# Altium integrated library Linear Technology Operational Amplifiers (LT1000).IntLib: 2280 symbols (part 33 of 79)
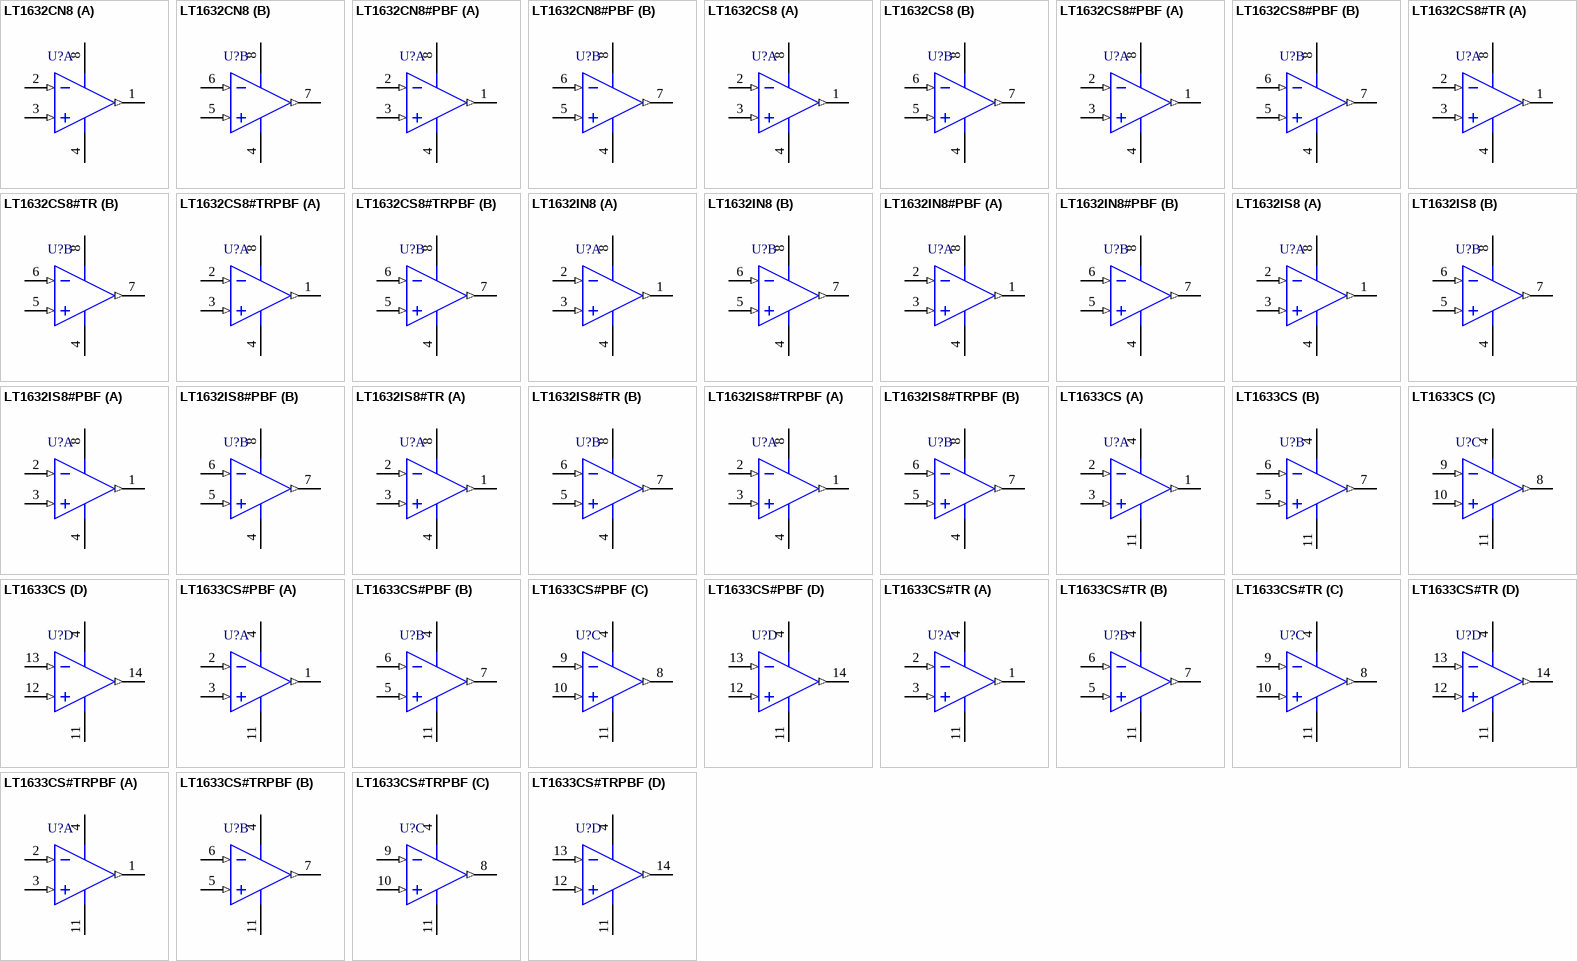
[diagram p137: symbols LT1632CN8 to LT1633CS#TRPBF]

## LT1633CS#TR
designator U?
Quad Channel, Low Distortion, High Speed, Precision Operational Amplifier, RRIO, 45 MHz Typical GBW, 27 V/us Typical SR, 2.6 to 36 V, 14-Pin SOIC (S-14), Commercial, Reel; Linear Technology Part Number: LT1633; Manufacturer: Linear Technology; PartNumber: LT1633CS#TR; Channels (#): 4; GBW (MHz) Typical: 45; Is (mA) Typical: 4.3; SR (V/us) Typical: 27; Vos (mV) Guaranteed: 1.35; Vos (mV) Typical: 0.4; Vs Max (V): 36; Vs Min (V): 2.6; PackageVersion: Rev G; PackageReference: LT-S-14; PackageDescription: 14-Lead Plastic Small Outline, Body 8.65 x 3.90 mm, Pitch 1.27 mm; Supplier 1: Digi-Key; Supplier Part Number 1: LT1633CS#TR-ND; Packing: Reel; Type: VFB; Mounting Technology: Surface Mount; ComponentLink1Description: Manufacturer URL; ComponentLink1URL: http://www.linear.com/; ComponentLink2Description: Datasheet; ComponentLink2URL: http://cds.linear.com/docs/en/datasheet/16323fs.pdf; ComponentLink3Description: Package Specification; ComponentLink3URL: http://cds.linear.com/docs/en/packaging/05081610_G_S14.pdf
footprint LT-S-14_N (SOIC, 14-Leads, Body 8.65x3.90mm, Pitch 1.27mm, IPC Medium Density)
footprint LT-S-14_L (SOIC, 14-Leads, Body 8.65x3.90mm, Pitch 1.27mm, IPC High Density)
footprint LT-S-14_M (SOIC, 14-Leads, Body 8.65x3.90mm, Pitch 1.27mm, IPC Low Density)
pins on every part: 4 V+ (power), 11 V- (power)
part A pins: 1 OUT A (out), 2 -IN A (in), 3 +IN A (in)
part B pins: 5 +IN B (in), 6 -IN B (in), 7 OUT B (out)
part C pins: 8 OUT C (out), 9 -IN C (in), 10 +IN C (in)
part D pins: 12 +IN D (in), 13 -IN D (in), 14 OUT D (out)

## LT1633CS#TRPBF
designator U?
Quad Channel, Low Distortion, High Speed, Precision Operational Amplifier, RRIO, 45 MHz Typical GBW, 27 V/us Typical SR, 2.6 to 36 V, 14-Pin SOIC (S-14), Commercial, Pb-Free, Reel; Linear Technology Part Number: LT1633; Manufacturer: Linear Technology; PartNumber: LT1633CS#TRPBF; Channels (#): 4; GBW (MHz) Typical: 45; Is (mA) Typical: 4.3; SR (V/us) Typical: 27; Vos (mV) Guaranteed: 1.35; Vos (mV) Typical: 0.4; Vs Max (V): 36; Vs Min (V): 2.6; PackageVersion: Rev G; PackageReference: LT-S-14; PackageDescription: 14-Lead Plastic Small Outline, Body 8.65 x 3.90 mm, Pitch 1.27 mm; Supplier 1: Digi-Key; Supplier Part Number 1: LT1633CS#TRPBF-ND; Packing: Reel; RoHS: Pb-Free; Type: VFB; Mounting Technology: Surface Mount; ComponentLink1Description: Manufacturer URL; ComponentLink1URL: http://www.linear.com/; ComponentLink2Description: Datasheet; ComponentLink2URL: http://cds.linear.com/docs/en/datasheet/16323fs.pdf; ComponentLink3Description: Package Specification; ComponentLink3URL: http://cds.linear.com/docs/en/packaging/05081610_G_S14.pdf
footprint LT-S-14_N (SOIC, 14-Leads, Body 8.65x3.90mm, Pitch 1.27mm, IPC Medium Density)
footprint LT-S-14_L (SOIC, 14-Leads, Body 8.65x3.90mm, Pitch 1.27mm, IPC High Density)
footprint LT-S-14_M (SOIC, 14-Leads, Body 8.65x3.90mm, Pitch 1.27mm, IPC Low Density)
pins on every part: 4 V+ (power), 11 V- (power)
part A pins: 1 OUT A (out), 2 -IN A (in), 3 +IN A (in)
part B pins: 5 +IN B (in), 6 -IN B (in), 7 OUT B (out)
part C pins: 8 OUT C (out), 9 -IN C (in), 10 +IN C (in)
part D pins: 12 +IN D (in), 13 -IN D (in), 14 OUT D (out)

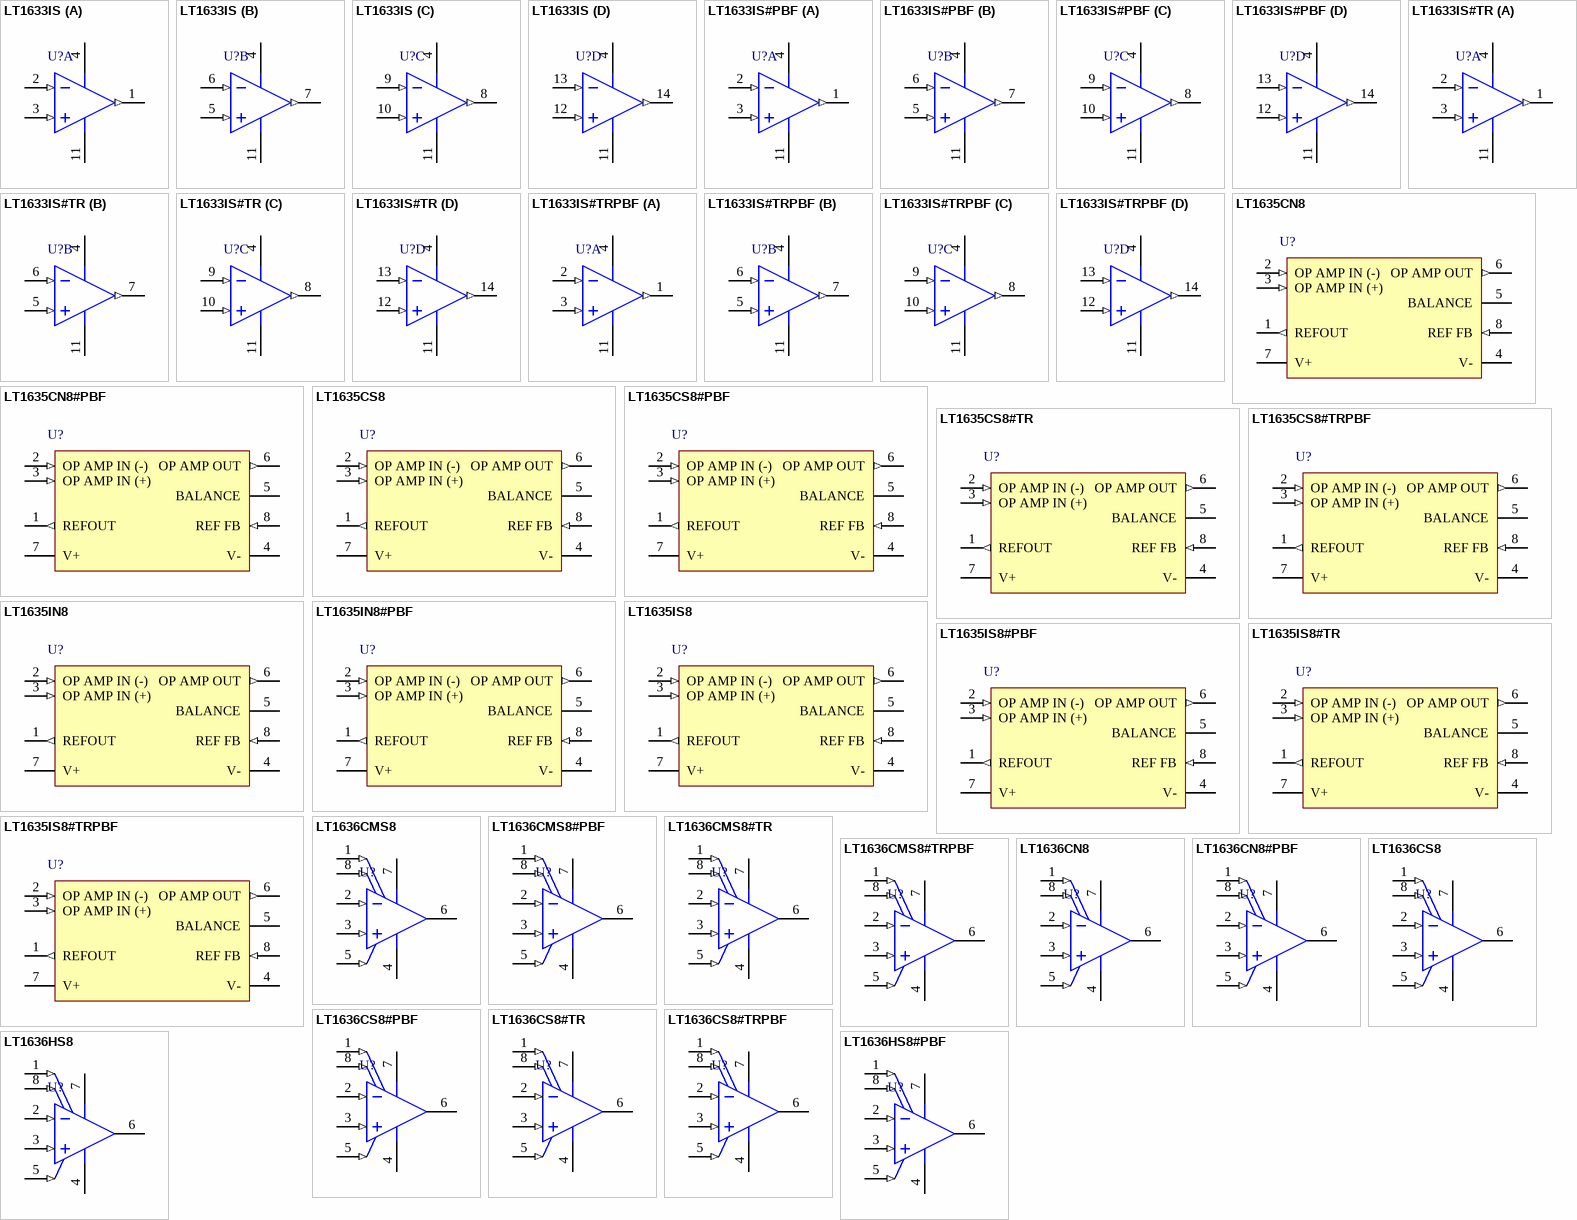
[diagram p57: symbols LT1633IS to LT1636HS8#PBF]

## LT1633IS
designator U?
Quad Channel, Low Distortion, High Speed, Precision Operational Amplifier, RRIO, 45 MHz Typical GBW, 27 V/us Typical SR, 2.6 to 36 V, 14-Pin SOIC (S-14), Industrial; Linear Technology Part Number: LT1633; Manufacturer: Linear Technology; PartNumber: LT1633IS; Channels (#): 4; GBW (MHz) Typical: 45; Is (mA) Typical: 4.3; SR (V/us) Typical: 27; Vos (mV) Guaranteed: 1.35; Vos (mV) Typical: 0.4; Vs Max (V): 36; Vs Min (V): 2.6; PackageVersion: Rev G; PackageReference: LT-S-14; PackageDescription: 14-Lead Plastic Small Outline, Body 8.65 x 3.90 mm, Pitch 1.27 mm; Supplier 1: Digi-Key; Supplier Part Number 1: LT1633IS-ND; Type: VFB; Mounting Technology: Surface Mount; ComponentLink1Description: Manufacturer URL; ComponentLink1URL: http://www.linear.com/; ComponentLink2Description: Datasheet; ComponentLink2URL: http://cds.linear.com/docs/en/datasheet/16323fs.pdf; ComponentLink3Description: Package Specification; ComponentLink3URL: http://cds.linear.com/docs/en/packaging/05081610_G_S14.pdf
footprint LT-S-14_N (SOIC, 14-Leads, Body 8.65x3.90mm, Pitch 1.27mm, IPC Medium Density)
footprint LT-S-14_L (SOIC, 14-Leads, Body 8.65x3.90mm, Pitch 1.27mm, IPC High Density)
footprint LT-S-14_M (SOIC, 14-Leads, Body 8.65x3.90mm, Pitch 1.27mm, IPC Low Density)
pins on every part: 4 V+ (power), 11 V- (power)
part A pins: 1 OUT A (out), 2 -IN A (in), 3 +IN A (in)
part B pins: 5 +IN B (in), 6 -IN B (in), 7 OUT B (out)
part C pins: 8 OUT C (out), 9 -IN C (in), 10 +IN C (in)
part D pins: 12 +IN D (in), 13 -IN D (in), 14 OUT D (out)

## LT1633IS#PBF
designator U?
Quad Channel, Low Distortion, High Speed, Precision Operational Amplifier, RRIO, 45 MHz Typical GBW, 27 V/us Typical SR, 2.6 to 36 V, 14-Pin SOIC (S-14), Industrial, Pb-Free; Linear Technology Part Number: LT1633; Manufacturer: Linear Technology; PartNumber: LT1633IS#PBF; Channels (#): 4; GBW (MHz) Typical: 45; Is (mA) Typical: 4.3; SR (V/us) Typical: 27; Vos (mV) Guaranteed: 1.35; Vos (mV) Typical: 0.4; Vs Max (V): 36; Vs Min (V): 2.6; PackageVersion: Rev G; PackageReference: LT-S-14; PackageDescription: 14-Lead Plastic Small Outline, Body 8.65 x 3.90 mm, Pitch 1.27 mm; Supplier 1: Digi-Key; Supplier Part Number 1: LT1633IS#PBF-ND; RoHS: Pb-Free; Type: VFB; Mounting Technology: Surface Mount; ComponentLink1Description: Manufacturer URL; ComponentLink1URL: http://www.linear.com/; ComponentLink2Description: Datasheet; ComponentLink2URL: http://cds.linear.com/docs/en/datasheet/16323fs.pdf; ComponentLink3Description: Package Specification; ComponentLink3URL: http://cds.linear.com/docs/en/packaging/05081610_G_S14.pdf
footprint LT-S-14_N (SOIC, 14-Leads, Body 8.65x3.90mm, Pitch 1.27mm, IPC Medium Density)
footprint LT-S-14_L (SOIC, 14-Leads, Body 8.65x3.90mm, Pitch 1.27mm, IPC High Density)
footprint LT-S-14_M (SOIC, 14-Leads, Body 8.65x3.90mm, Pitch 1.27mm, IPC Low Density)
pins on every part: 4 V+ (power), 11 V- (power)
part A pins: 1 OUT A (out), 2 -IN A (in), 3 +IN A (in)
part B pins: 5 +IN B (in), 6 -IN B (in), 7 OUT B (out)
part C pins: 8 OUT C (out), 9 -IN C (in), 10 +IN C (in)
part D pins: 12 +IN D (in), 13 -IN D (in), 14 OUT D (out)

## LT1633IS#TR
designator U?
Quad Channel, Low Distortion, High Speed, Precision Operational Amplifier, RRIO, 45 MHz Typical GBW, 27 V/us Typical SR, 2.6 to 36 V, 14-Pin SOIC (S-14), Industrial, Reel; Linear Technology Part Number: LT1633; Manufacturer: Linear Technology; PartNumber: LT1633IS#TR; Channels (#): 4; GBW (MHz) Typical: 45; Is (mA) Typical: 4.3; SR (V/us) Typical: 27; Vos (mV) Guaranteed: 1.35; Vos (mV) Typical: 0.4; Vs Max (V): 36; Vs Min (V): 2.6; PackageVersion: Rev G; PackageReference: LT-S-14; PackageDescription: 14-Lead Plastic Small Outline, Body 8.65 x 3.90 mm, Pitch 1.27 mm; Supplier 1: Digi-Key; Supplier Part Number 1: LT1633IS#TR-ND; Packing: Reel; Type: VFB; Mounting Technology: Surface Mount; ComponentLink1Description: Manufacturer URL; ComponentLink1URL: http://www.linear.com/; ComponentLink2Description: Datasheet; ComponentLink2URL: http://cds.linear.com/docs/en/datasheet/16323fs.pdf; ComponentLink3Description: Package Specification; ComponentLink3URL: http://cds.linear.com/docs/en/packaging/05081610_G_S14.pdf
footprint LT-S-14_N (SOIC, 14-Leads, Body 8.65x3.90mm, Pitch 1.27mm, IPC Medium Density)
footprint LT-S-14_L (SOIC, 14-Leads, Body 8.65x3.90mm, Pitch 1.27mm, IPC High Density)
footprint LT-S-14_M (SOIC, 14-Leads, Body 8.65x3.90mm, Pitch 1.27mm, IPC Low Density)
pins on every part: 4 V+ (power), 11 V- (power)
part A pins: 1 OUT A (out), 2 -IN A (in), 3 +IN A (in)
part B pins: 5 +IN B (in), 6 -IN B (in), 7 OUT B (out)
part C pins: 8 OUT C (out), 9 -IN C (in), 10 +IN C (in)
part D pins: 12 +IN D (in), 13 -IN D (in), 14 OUT D (out)

## LT1633IS#TRPBF
designator U?
Quad Channel, Low Distortion, High Speed, Precision Operational Amplifier, RRIO, 45 MHz Typical GBW, 27 V/us Typical SR, 2.6 to 36 V, 14-Pin SOIC (S-14), Industrial, Pb-Free, Reel; Linear Technology Part Number: LT1633; Manufacturer: Linear Technology; PartNumber: LT1633IS#TRPBF; Channels (#): 4; GBW (MHz) Typical: 45; Is (mA) Typical: 4.3; SR (V/us) Typical: 27; Vos (mV) Guaranteed: 1.35; Vos (mV) Typical: 0.4; Vs Max (V): 36; Vs Min (V): 2.6; PackageVersion: Rev G; PackageReference: LT-S-14; PackageDescription: 14-Lead Plastic Small Outline, Body 8.65 x 3.90 mm, Pitch 1.27 mm; Supplier 1: Digi-Key; Supplier Part Number 1: LT1633IS#TRPBF-ND; Packing: Reel; RoHS: Pb-Free; Type: VFB; Mounting Technology: Surface Mount; ComponentLink1Description: Manufacturer URL; ComponentLink1URL: http://www.linear.com/; ComponentLink2Description: Datasheet; ComponentLink2URL: http://cds.linear.com/docs/en/datasheet/16323fs.pdf; ComponentLink3Description: Package Specification; ComponentLink3URL: http://cds.linear.com/docs/en/packaging/05081610_G_S14.pdf
footprint LT-S-14_N (SOIC, 14-Leads, Body 8.65x3.90mm, Pitch 1.27mm, IPC Medium Density)
footprint LT-S-14_L (SOIC, 14-Leads, Body 8.65x3.90mm, Pitch 1.27mm, IPC High Density)
footprint LT-S-14_M (SOIC, 14-Leads, Body 8.65x3.90mm, Pitch 1.27mm, IPC Low Density)
pins on every part: 4 V+ (power), 11 V- (power)
part A pins: 1 OUT A (out), 2 -IN A (in), 3 +IN A (in)
part B pins: 5 +IN B (in), 6 -IN B (in), 7 OUT B (out)
part C pins: 8 OUT C (out), 9 -IN C (in), 10 +IN C (in)
part D pins: 12 +IN D (in), 13 -IN D (in), 14 OUT D (out)

## LT1635CN8
designator U?
Single Channel, Operational Amplifier and Reference with LM10 Pinout, 0.175 MHz Typical GBW, 0.045 V/us Typical SR, 1.1 to 14 V, 8-Pin DIP (N8-8), Commercial; Linear Technology Part Number: LT1635; Manufacturer: Linear Technology; PartNumber: LT1635CN8; Channels (#): 1; GBW (MHz) Typical: 0.175; Is (mA) Typical: 0.13; SR (V/us) Typical: 0.045; Vos (mV) Guaranteed: 1.3; Vs Max (V): 14; Vs Min (V): 1.1; DatasheetVersion: Rev. A; PackageVersion: Rev I; PackageReference: LT-N8-8; PackageDescription: 8-Lead PDIP, Body 10.16 x 6.48 mm, Pitch 2.54 mm; Supplier 1: Digi-Key; Supplier Part Number 1: LT1635CN8-ND; Type: VFB; Vos (mV) Typical: 0.13; Mounting Technology: Through Hole; ComponentLink1Description: Manufacturer URL; ComponentLink1URL: http://www.linear.com/; ComponentLink2Description: Datasheet; ComponentLink2URL: http://cds.linear.com/docs/en/datasheet/1635fa.pdf; ComponentLink3Description: Package Specification; ComponentLink3URL: http://cds.linear.com/docs/en/packaging/05081510_I_N8.pdf
footprint LT-N8-8 (DIP, 8-Leads, Body 10.16x6.48mm, Pitch 2.54mm)
pins: 1 REFOUT (out), 2 OP AMP IN (-) (in), 3 OP AMP IN (+) (in), 4 V- (power), 5 BALANCE, 6 OP AMP OUT (out), 7 V+ (power), 8 REF FB (in)

## LT1635CN8#PBF
designator U?
Single Channel, Operational Amplifier and Reference with LM10 Pinout, 0.175 MHz Typical GBW, 0.045 V/us Typical SR, 1.1 to 14 V, 8-Pin DIP (N8-8), Commercial, Pb-Free; Linear Technology Part Number: LT1635; Manufacturer: Linear Technology; PartNumber: LT1635CN8#PBF; Channels (#): 1; GBW (MHz) Typical: 0.175; Is (mA) Typical: 0.13; SR (V/us) Typical: 0.045; Vos (mV) Guaranteed: 1.3; Vs Max (V): 14; Vs Min (V): 1.1; DatasheetVersion: Rev. A; PackageVersion: Rev I; PackageReference: LT-N8-8; PackageDescription: 8-Lead PDIP, Body 10.16 x 6.48 mm, Pitch 2.54 mm; Supplier 1: Digi-Key; Supplier Part Number 1: LT1635CN8#PBF-ND; Supplier 2: Farnell; Supplier Part Number 2: 1663455; RoHS: Pb-Free; Type: VFB; Vos (mV) Typical: 0.13; Mounting Technology: Surface Mount; ComponentLink1Description: Manufacturer URL; ComponentLink1URL: http://www.linear.com/; ComponentLink2Description: Datasheet; ComponentLink2URL: http://cds.linear.com/docs/en/datasheet/1635fa.pdf; ComponentLink3Description: Package Specification; ComponentLink3URL: http://cds.linear.com/docs/en/packaging/05081510_I_N8.pdf
footprint LT-N8-8 (DIP, 8-Leads, Body 10.16x6.48mm, Pitch 2.54mm)
pins: 1 REFOUT (out), 2 OP AMP IN (-) (in), 3 OP AMP IN (+) (in), 4 V- (power), 5 BALANCE, 6 OP AMP OUT (out), 7 V+ (power), 8 REF FB (in)

## LT1635CS8
designator U?
Single Channel, Operational Amplifier and Reference with LM10 Pinout, 0.175 MHz Typical GBW, 0.045 V/us Typical SR, 1.1 to 14 V, 8-Pin SOIC (S8-8), Commercial; Linear Technology Part Number: LT1635; Manufacturer: Linear Technology; PartNumber: LT1635CS8; Channels (#): 1; GBW (MHz) Typical: 0.175; Is (mA) Typical: 0.13; SR (V/us) Typical: 0.045; Vos (mV) Guaranteed: 1.3; Vs Max (V): 14; Vs Min (V): 1.1; DatasheetVersion: Rev. A; PackageVersion: Rev G; PackageReference: LT-S8-8; PackageDescription: 8-Pin Plastic Small Outline, Body 4.9 x 3.9 mm, Pitch 1.27 mm; Supplier 1: Digi-Key; Supplier Part Number 1: LT1635CS8-ND; Type: VFB; Vos (mV) Typical: 0.13; Mounting Technology: Surface Mount; ComponentLink1Description: Manufacturer URL; ComponentLink1URL: http://www.linear.com/; ComponentLink2Description: Datasheet; ComponentLink2URL: http://cds.linear.com/docs/en/datasheet/1635fa.pdf; ComponentLink3Description: Package Specification; ComponentLink3URL: http://cds.linear.com/docs/en/packaging/05081610_G_SO8.pdf
footprint LT-S8-8_N (SOIC, 8-Leads, Body 4.9x3.9mm, Pitch 1.27mm, IPC Medium Density)
footprint LT-S8-8_L (SOIC, 8-Leads, Body 4.9x3.9mm, Pitch 1.27mm, IPC High Density)
footprint LT-S8-8_M (SOIC, 8-Leads, Body 4.9x3.9mm, Pitch 1.27mm, IPC Low Density)
pins: 1 REFOUT (out), 2 OP AMP IN (-) (in), 3 OP AMP IN (+) (in), 4 V- (power), 5 BALANCE, 6 OP AMP OUT (out), 7 V+ (power), 8 REF FB (in)

## LT1635CS8#PBF
designator U?
Single Channel, Operational Amplifier and Reference with LM10 Pinout, 0.175 MHz Typical GBW, 0.045 V/us Typical SR, 1.1 to 14 V, 8-Pin SOIC (S8-8), Commercial, Pb-Free; Linear Technology Part Number: LT1635; Manufacturer: Linear Technology; PartNumber: LT1635CS8#PBF; Channels (#): 1; GBW (MHz) Typical: 0.175; Is (mA) Typical: 0.13; SR (V/us) Typical: 0.045; Vos (mV) Guaranteed: 1.3; Vs Max (V): 14; Vs Min (V): 1.1; DatasheetVersion: Rev. A; PackageVersion: Rev G; PackageReference: LT-S8-8; PackageDescription: 8-Pin Plastic Small Outline, Body 4.9 x 3.9 mm, Pitch 1.27 mm; Supplier 1: Digi-Key; Supplier Part Number 1: LT1635CS8#PBF-ND; Supplier 2: Farnell; Supplier Part Number 2: 1330678; Supplier 3: Newark; Supplier Part Number 3: 57M5408; RoHS: Pb-Free; Type: VFB; Vos (mV) Typical: 0.13; Mounting Technology: Surface Mount; ComponentLink1Description: Manufacturer URL; ComponentLink1URL: http://www.linear.com/; ComponentLink2Description: Datasheet; ComponentLink2URL: http://cds.linear.com/docs/en/datasheet/1635fa.pdf; ComponentLink3Description: Package Specification; ComponentLink3URL: http://cds.linear.com/docs/en/packaging/05081610_G_SO8.pdf
footprint LT-S8-8_N (SOIC, 8-Leads, Body 4.9x3.9mm, Pitch 1.27mm, IPC Medium Density)
footprint LT-S8-8_L (SOIC, 8-Leads, Body 4.9x3.9mm, Pitch 1.27mm, IPC High Density)
footprint LT-S8-8_M (SOIC, 8-Leads, Body 4.9x3.9mm, Pitch 1.27mm, IPC Low Density)
pins: 1 REFOUT (out), 2 OP AMP IN (-) (in), 3 OP AMP IN (+) (in), 4 V- (power), 5 BALANCE, 6 OP AMP OUT (out), 7 V+ (power), 8 REF FB (in)

## LT1635CS8#TR
designator U?
Single Channel, Operational Amplifier and Reference with LM10 Pinout, 0.175 MHz Typical GBW, 0.045 V/us Typical SR, 1.1 to 14 V, 8-Pin SOIC (S8-8), Commercial, Reel; Linear Technology Part Number: LT1635; Manufacturer: Linear Technology; PartNumber: LT1635CS8#TR; Channels (#): 1; GBW (MHz) Typical: 0.175; Is (mA) Typical: 0.13; SR (V/us) Typical: 0.045; Vos (mV) Guaranteed: 1.3; Vs Max (V): 14; Vs Min (V): 1.1; DatasheetVersion: Rev. A; PackageVersion: Rev G; PackageReference: LT-S8-8; PackageDescription: 8-Pin Plastic Small Outline, Body 4.9 x 3.9 mm, Pitch 1.27 mm; Supplier 1: Digi-Key; Supplier Part Number 1: LT1635CS8#TR-ND; Packing: Reel; Type: VFB; Vos (mV) Typical: 0.13; Mounting Technology: Surface Mount; ComponentLink1Description: Manufacturer URL; ComponentLink1URL: http://www.linear.com/; ComponentLink2Description: Datasheet; ComponentLink2URL: http://cds.linear.com/docs/en/datasheet/1635fa.pdf; ComponentLink3Description: Package Specification; ComponentLink3URL: http://cds.linear.com/docs/en/packaging/05081610_G_SO8.pdf
footprint LT-S8-8_N (SOIC, 8-Leads, Body 4.9x3.9mm, Pitch 1.27mm, IPC Medium Density)
footprint LT-S8-8_L (SOIC, 8-Leads, Body 4.9x3.9mm, Pitch 1.27mm, IPC High Density)
footprint LT-S8-8_M (SOIC, 8-Leads, Body 4.9x3.9mm, Pitch 1.27mm, IPC Low Density)
pins: 1 REFOUT (out), 2 OP AMP IN (-) (in), 3 OP AMP IN (+) (in), 4 V- (power), 5 BALANCE, 6 OP AMP OUT (out), 7 V+ (power), 8 REF FB (in)

## LT1635CS8#TRPBF
designator U?
Single Channel, Operational Amplifier and Reference with LM10 Pinout, 0.175 MHz Typical GBW, 0.045 V/us Typical SR, 1.1 to 14 V, 8-Pin SOIC (S8-8), Commercial, Pb-Free, Reel; Linear Technology Part Number: LT1635; Manufacturer: Linear Technology; PartNumber: LT1635CS8#TRPBF; Channels (#): 1; GBW (MHz) Typical: 0.175; Is (mA) Typical: 0.13; SR (V/us) Typical: 0.045; Vos (mV) Guaranteed: 1.3; Vs Max (V): 14; Vs Min (V): 1.1; DatasheetVersion: Rev. A; PackageVersion: Rev G; PackageReference: LT-S8-8; PackageDescription: 8-Pin Plastic Small Outline, Body 4.9 x 3.9 mm, Pitch 1.27 mm; Supplier 1: Digi-Key; Supplier Part Number 1: LT1635CS8#TRPBF-ND; Packing: Reel; RoHS: Pb-Free; Type: VFB; Vos (mV) Typical: 0.13; Mounting Technology: Surface Mount; ComponentLink1Description: Manufacturer URL; ComponentLink1URL: http://www.linear.com/; ComponentLink2Description: Datasheet; ComponentLink2URL: http://cds.linear.com/docs/en/datasheet/1635fa.pdf; ComponentLink3Description: Package Specification; ComponentLink3URL: http://cds.linear.com/docs/en/packaging/05081610_G_SO8.pdf
footprint LT-S8-8_N (SOIC, 8-Leads, Body 4.9x3.9mm, Pitch 1.27mm, IPC Medium Density)
footprint LT-S8-8_L (SOIC, 8-Leads, Body 4.9x3.9mm, Pitch 1.27mm, IPC High Density)
footprint LT-S8-8_M (SOIC, 8-Leads, Body 4.9x3.9mm, Pitch 1.27mm, IPC Low Density)
pins: 1 REFOUT (out), 2 OP AMP IN (-) (in), 3 OP AMP IN (+) (in), 4 V- (power), 5 BALANCE, 6 OP AMP OUT (out), 7 V+ (power), 8 REF FB (in)

## LT1635IN8
designator U?
Single Channel, Operational Amplifier and Reference with LM10 Pinout, 0.175 MHz Typical GBW, 0.045 V/us Typical SR, 1.1 to 14 V, 8-Pin DIP (N8-8), Industrial; Linear Technology Part Number: LT1635; Manufacturer: Linear Technology; PartNumber: LT1635IN8; Channels (#): 1; GBW (MHz) Typical: 0.175; Is (mA) Typical: 0.13; SR (V/us) Typical: 0.045; Vos (mV) Guaranteed: 1.3; Vs Max (V): 14; Vs Min (V): 1.1; DatasheetVersion: Rev. A; PackageVersion: Rev I; PackageReference: LT-N8-8; PackageDescription: 8-Lead PDIP, Body 10.16 x 6.48 mm, Pitch 2.54 mm; Supplier 1: Digi-Key; Supplier Part Number 1: LT1635IN8-ND; Type: VFB; Vos (mV) Typical: 0.13; Mounting Technology: Through Hole; ComponentLink1Description: Manufacturer URL; ComponentLink1URL: http://www.linear.com/; ComponentLink2Description: Datasheet; ComponentLink2URL: http://cds.linear.com/docs/en/datasheet/1635fa.pdf; ComponentLink3Description: Package Specification; ComponentLink3URL: http://cds.linear.com/docs/en/packaging/05081510_I_N8.pdf
footprint LT-N8-8 (DIP, 8-Leads, Body 10.16x6.48mm, Pitch 2.54mm)
pins: 1 REFOUT (out), 2 OP AMP IN (-) (in), 3 OP AMP IN (+) (in), 4 V- (power), 5 BALANCE, 6 OP AMP OUT (out), 7 V+ (power), 8 REF FB (in)

## LT1635IN8#PBF
designator U?
Single Channel, Operational Amplifier and Reference with LM10 Pinout, 0.175 MHz Typical GBW, 0.045 V/us Typical SR, 1.1 to 14 V, 8-Pin DIP (N8-8), Industrial, Pb-Free; Linear Technology Part Number: LT1635; Manufacturer: Linear Technology; PartNumber: LT1635IN8#PBF; Channels (#): 1; GBW (MHz) Typical: 0.175; Is (mA) Typical: 0.13; SR (V/us) Typical: 0.045; Vos (mV) Guaranteed: 1.3; Vs Max (V): 14; Vs Min (V): 1.1; DatasheetVersion: Rev. A; PackageVersion: Rev I; PackageReference: LT-N8-8; PackageDescription: 8-Lead PDIP, Body 10.16 x 6.48 mm, Pitch 2.54 mm; Supplier 1: Digi-Key; Supplier Part Number 1: LT1635IN8#PBF-ND; RoHS: Pb-Free; Type: VFB; Vos (mV) Typical: 0.13; Mounting Technology: Surface Mount; ComponentLink1Description: Manufacturer URL; ComponentLink1URL: http://www.linear.com/; ComponentLink2Description: Datasheet; ComponentLink2URL: http://cds.linear.com/docs/en/datasheet/1635fa.pdf; ComponentLink3Description: Package Specification; ComponentLink3URL: http://cds.linear.com/docs/en/packaging/05081510_I_N8.pdf
footprint LT-N8-8 (DIP, 8-Leads, Body 10.16x6.48mm, Pitch 2.54mm)
pins: 1 REFOUT (out), 2 OP AMP IN (-) (in), 3 OP AMP IN (+) (in), 4 V- (power), 5 BALANCE, 6 OP AMP OUT (out), 7 V+ (power), 8 REF FB (in)

## LT1635IS8
designator U?
Single Channel, Operational Amplifier and Reference with LM10 Pinout, 0.175 MHz Typical GBW, 0.045 V/us Typical SR, 1.1 to 14 V, 8-Pin SOIC (S8-8), Industrial; Linear Technology Part Number: LT1635; Manufacturer: Linear Technology; PartNumber: LT1635IS8; Channels (#): 1; GBW (MHz) Typical: 0.175; Is (mA) Typical: 0.13; SR (V/us) Typical: 0.045; Vos (mV) Guaranteed: 1.3; Vs Max (V): 14; Vs Min (V): 1.1; DatasheetVersion: Rev. A; PackageVersion: Rev G; PackageReference: LT-S8-8; PackageDescription: 8-Pin Plastic Small Outline, Body 4.9 x 3.9 mm, Pitch 1.27 mm; Supplier 1: Digi-Key; Supplier Part Number 1: LT1635IS8-ND; Type: VFB; Vos (mV) Typical: 0.13; Mounting Technology: Surface Mount; ComponentLink1Description: Manufacturer URL; ComponentLink1URL: http://www.linear.com/; ComponentLink2Description: Datasheet; ComponentLink2URL: http://cds.linear.com/docs/en/datasheet/1635fa.pdf; ComponentLink3Description: Package Specification; ComponentLink3URL: http://cds.linear.com/docs/en/packaging/05081610_G_SO8.pdf
footprint LT-S8-8_N (SOIC, 8-Leads, Body 4.9x3.9mm, Pitch 1.27mm, IPC Medium Density)
footprint LT-S8-8_L (SOIC, 8-Leads, Body 4.9x3.9mm, Pitch 1.27mm, IPC High Density)
footprint LT-S8-8_M (SOIC, 8-Leads, Body 4.9x3.9mm, Pitch 1.27mm, IPC Low Density)
pins: 1 REFOUT (out), 2 OP AMP IN (-) (in), 3 OP AMP IN (+) (in), 4 V- (power), 5 BALANCE, 6 OP AMP OUT (out), 7 V+ (power), 8 REF FB (in)

## LT1635IS8#PBF
designator U?
Single Channel, Operational Amplifier and Reference with LM10 Pinout, 0.175 MHz Typical GBW, 0.045 V/us Typical SR, 1.1 to 14 V, 8-Pin SOIC (S8-8), Industrial, Pb-Free; Linear Technology Part Number: LT1635; Manufacturer: Linear Technology; PartNumber: LT1635IS8#PBF; Channels (#): 1; GBW (MHz) Typical: 0.175; Is (mA) Typical: 0.13; SR (V/us) Typical: 0.045; Vos (mV) Guaranteed: 1.3; Vs Max (V): 14; Vs Min (V): 1.1; DatasheetVersion: Rev. A; PackageVersion: Rev G; PackageReference: LT-S8-8; PackageDescription: 8-Pin Plastic Small Outline, Body 4.9 x 3.9 mm, Pitch 1.27 mm; Supplier 1: Digi-Key; Supplier Part Number 1: LT1635IS8#PBF-ND; Supplier 2: Newark; Supplier Part Number 2: 57M5414; RoHS: Pb-Free; Type: VFB; Vos (mV) Typical: 0.13; Mounting Technology: Surface Mount; ComponentLink1Description: Manufacturer URL; ComponentLink1URL: http://www.linear.com/; ComponentLink2Description: Datasheet; ComponentLink2URL: http://cds.linear.com/docs/en/datasheet/1635fa.pdf; ComponentLink3Description: Package Specification; ComponentLink3URL: http://cds.linear.com/docs/en/packaging/05081610_G_SO8.pdf
footprint LT-S8-8_N (SOIC, 8-Leads, Body 4.9x3.9mm, Pitch 1.27mm, IPC Medium Density)
footprint LT-S8-8_L (SOIC, 8-Leads, Body 4.9x3.9mm, Pitch 1.27mm, IPC High Density)
footprint LT-S8-8_M (SOIC, 8-Leads, Body 4.9x3.9mm, Pitch 1.27mm, IPC Low Density)
pins: 1 REFOUT (out), 2 OP AMP IN (-) (in), 3 OP AMP IN (+) (in), 4 V- (power), 5 BALANCE, 6 OP AMP OUT (out), 7 V+ (power), 8 REF FB (in)

## LT1635IS8#TR
designator U?
Single Channel, Operational Amplifier and Reference with LM10 Pinout, 0.175 MHz Typical GBW, 0.045 V/us Typical SR, 1.1 to 14 V, 8-Pin SOIC (S8-8), Industrial, Reel; Linear Technology Part Number: LT1635; Manufacturer: Linear Technology; PartNumber: LT1635IS8#TR; Channels (#): 1; GBW (MHz) Typical: 0.175; Is (mA) Typical: 0.13; SR (V/us) Typical: 0.045; Vos (mV) Guaranteed: 1.3; Vs Max (V): 14; Vs Min (V): 1.1; DatasheetVersion: Rev. A; PackageVersion: Rev G; PackageReference: LT-S8-8; PackageDescription: 8-Pin Plastic Small Outline, Body 4.9 x 3.9 mm, Pitch 1.27 mm; Supplier 1: Digi-Key; Supplier Part Number 1: LT1635IS8#TR-ND; Packing: Reel; Type: VFB; Vos (mV) Typical: 0.13; Mounting Technology: Surface Mount; ComponentLink1Description: Manufacturer URL; ComponentLink1URL: http://www.linear.com/; ComponentLink2Description: Datasheet; ComponentLink2URL: http://cds.linear.com/docs/en/datasheet/1635fa.pdf; ComponentLink3Description: Package Specification; ComponentLink3URL: http://cds.linear.com/docs/en/packaging/05081610_G_SO8.pdf
footprint LT-S8-8_N (SOIC, 8-Leads, Body 4.9x3.9mm, Pitch 1.27mm, IPC Medium Density)
footprint LT-S8-8_L (SOIC, 8-Leads, Body 4.9x3.9mm, Pitch 1.27mm, IPC High Density)
footprint LT-S8-8_M (SOIC, 8-Leads, Body 4.9x3.9mm, Pitch 1.27mm, IPC Low Density)
pins: 1 REFOUT (out), 2 OP AMP IN (-) (in), 3 OP AMP IN (+) (in), 4 V- (power), 5 BALANCE, 6 OP AMP OUT (out), 7 V+ (power), 8 REF FB (in)

## LT1635IS8#TRPBF
designator U?
Single Channel, Operational Amplifier and Reference with LM10 Pinout, 0.175 MHz Typical GBW, 0.045 V/us Typical SR, 1.1 to 14 V, 8-Pin SOIC (S8-8), Industrial, Pb-Free, Reel; Linear Technology Part Number: LT1635; Manufacturer: Linear Technology; PartNumber: LT1635IS8#TRPBF; Channels (#): 1; GBW (MHz) Typical: 0.175; Is (mA) Typical: 0.13; SR (V/us) Typical: 0.045; Vos (mV) Guaranteed: 1.3; Vs Max (V): 14; Vs Min (V): 1.1; DatasheetVersion: Rev. A; PackageVersion: Rev G; PackageReference: LT-S8-8; PackageDescription: 8-Pin Plastic Small Outline, Body 4.9 x 3.9 mm, Pitch 1.27 mm; Supplier 1: Digi-Key; Supplier Part Number 1: LT1635IS8#TRPBF-ND; Packing: Reel; RoHS: Pb-Free; Type: VFB; Vos (mV) Typical: 0.13; Mounting Technology: Surface Mount; ComponentLink1Description: Manufacturer URL; ComponentLink1URL: http://www.linear.com/; ComponentLink2Description: Datasheet; ComponentLink2URL: http://cds.linear.com/docs/en/datasheet/1635fa.pdf; ComponentLink3Description: Package Specification; ComponentLink3URL: http://cds.linear.com/docs/en/packaging/05081610_G_SO8.pdf
footprint LT-S8-8_N (SOIC, 8-Leads, Body 4.9x3.9mm, Pitch 1.27mm, IPC Medium Density)
footprint LT-S8-8_L (SOIC, 8-Leads, Body 4.9x3.9mm, Pitch 1.27mm, IPC High Density)
footprint LT-S8-8_M (SOIC, 8-Leads, Body 4.9x3.9mm, Pitch 1.27mm, IPC Low Density)
pins: 1 REFOUT (out), 2 OP AMP IN (-) (in), 3 OP AMP IN (+) (in), 4 V- (power), 5 BALANCE, 6 OP AMP OUT (out), 7 V+ (power), 8 REF FB (in)

## LT1636CMS8
designator U?
Single Channel, Micropower Rail-to-Rail Operational Amplifier, 0.2 MHz Typical GBW, 0.07 V/us Typical SR, 2.6 to 44 V, 8-Pin SOP (MS8-8), Commercial; Linear Technology Part Number: LT1636; Manufacturer: Linear Technology; PartNumber: LT1636CMS8; Channels (#): 1; GBW (MHz) Typical: 0.2; Is (mA) Typical: 0.042; SR (V/us) Typical: 0.07; Vos (mV) Guaranteed: 0.225; Vos (mV) Typical: 0.05; Vs Max (V): 44; Vs Min (V): 2.6; DatasheetVersion: Rev. C; PackageVersion: Rev G; PackageReference: LT-MS8-8; PackageDescription: 8-Lead Plastic Small Outline, Body 3.9 x 4.9 mm, Pitch 1.27 mm; Supplier 1: Digi-Key; Supplier Part Number 1: LT1636CMS8-ND; Supplier 2: Newark; Supplier Part Number 2: 57M5421; Type: VFB; Mounting Technology: Surface Mount; ComponentLink1Description: Manufacturer URL; ComponentLink1URL: http://www.linear.com/; ComponentLink2Description: Datasheet; ComponentLink2URL: http://cds.linear.com/docs/en/datasheet/1636fc.pdf; ComponentLink3Description: Package Specification; ComponentLink3URL: http://cds.linear.com/docs/en/packaging/05081610_G_SO8.pdf
footprint LT-MS8-8_N (SOP, 8-Leads, Body 3x3mm, Pitch 0.65mm, IPC Medium Density)
footprint LT-MS8-8_L (SOP, 8-Leads, Body 3x3mm, Pitch 0.65mm, IPC High Density)
footprint LT-MS8-8_M (SOP, 8-Leads, Body 3x3mm, Pitch 0.65mm, IPC Low Density)
pins: 1 NULL (in), 2 -IN (in), 3 +IN (in), 4 V- (power), 5 SHDN (in), 6 OUT (hiz), 7 V+ (power), 8 NULL (in)

## LT1636CMS8#PBF
designator U?
Single Channel, Micropower Rail-to-Rail Operational Amplifier, 0.2 MHz Typical GBW, 0.07 V/us Typical SR, 2.6 to 44 V, 8-Pin SOP (MS8-8), Commercial, Pb-Free; Linear Technology Part Number: LT1636; Manufacturer: Linear Technology; PartNumber: LT1636CMS8#PBF; Channels (#): 1; GBW (MHz) Typical: 0.2; Is (mA) Typical: 0.042; SR (V/us) Typical: 0.07; Vos (mV) Guaranteed: 0.225; Vos (mV) Typical: 0.05; Vs Max (V): 44; Vs Min (V): 2.6; DatasheetVersion: Rev. C; PackageVersion: Rev G; PackageReference: LT-MS8-8; PackageDescription: 8-Lead Plastic Small Outline, Body 3.9 x 4.9 mm, Pitch 1.27 mm; Supplier 1: Digi-Key; Supplier Part Number 1: LT1636CMS8#PBF-ND; Supplier 2: Newark; Supplier Part Number 2: 57M5422; RoHS: Pb-Free; Type: VFB; Mounting Technology: Surface Mount; ComponentLink1Description: Manufacturer URL; ComponentLink1URL: http://www.linear.com/; ComponentLink2Description: Datasheet; ComponentLink2URL: http://cds.linear.com/docs/en/datasheet/1636fc.pdf; ComponentLink3Description: Package Specification; ComponentLink3URL: http://cds.linear.com/docs/en/packaging/05081610_G_SO8.pdf
footprint LT-MS8-8_N (SOP, 8-Leads, Body 3x3mm, Pitch 0.65mm, IPC Medium Density)
footprint LT-MS8-8_L (SOP, 8-Leads, Body 3x3mm, Pitch 0.65mm, IPC High Density)
footprint LT-MS8-8_M (SOP, 8-Leads, Body 3x3mm, Pitch 0.65mm, IPC Low Density)
pins: 1 NULL (in), 2 -IN (in), 3 +IN (in), 4 V- (power), 5 SHDN (in), 6 OUT (hiz), 7 V+ (power), 8 NULL (in)

## LT1636CMS8#TR
designator U?
Single Channel, Micropower Rail-to-Rail Operational Amplifier, 0.2 MHz Typical GBW, 0.07 V/us Typical SR, 2.6 to 44 V, 8-Pin SOP (MS8-8), Commercial, Reel; Linear Technology Part Number: LT1636; Manufacturer: Linear Technology; PartNumber: LT1636CMS8#TR; Channels (#): 1; GBW (MHz) Typical: 0.2; Is (mA) Typical: 0.042; SR (V/us) Typical: 0.07; Vos (mV) Guaranteed: 0.225; Vos (mV) Typical: 0.05; Vs Max (V): 44; Vs Min (V): 2.6; DatasheetVersion: Rev. C; PackageVersion: Rev G; PackageReference: LT-MS8-8; PackageDescription: 8-Lead Plastic Small Outline, Body 3.9 x 4.9 mm, Pitch 1.27 mm; Supplier 1: Digi-Key; Supplier Part Number 1: LT1636CMS8#TR-ND; Packing: Reel; Type: VFB; Mounting Technology: Surface Mount; ComponentLink1Description: Manufacturer URL; ComponentLink1URL: http://www.linear.com/; ComponentLink2Description: Datasheet; ComponentLink2URL: http://cds.linear.com/docs/en/datasheet/1636fc.pdf; ComponentLink3Description: Package Specification; ComponentLink3URL: http://cds.linear.com/docs/en/packaging/05081610_G_SO8.pdf
footprint LT-MS8-8_N (SOP, 8-Leads, Body 3x3mm, Pitch 0.65mm, IPC Medium Density)
footprint LT-MS8-8_L (SOP, 8-Leads, Body 3x3mm, Pitch 0.65mm, IPC High Density)
footprint LT-MS8-8_M (SOP, 8-Leads, Body 3x3mm, Pitch 0.65mm, IPC Low Density)
pins: 1 NULL (in), 2 -IN (in), 3 +IN (in), 4 V- (power), 5 SHDN (in), 6 OUT (hiz), 7 V+ (power), 8 NULL (in)

## LT1636CMS8#TRPBF
designator U?
Single Channel, Micropower Rail-to-Rail Operational Amplifier, 0.2 MHz Typical GBW, 0.07 V/us Typical SR, 2.6 to 44 V, 8-Pin SOP (MS8-8), Commercial, Pb-Free, Reel; Linear Technology Part Number: LT1636; Manufacturer: Linear Technology; PartNumber: LT1636CMS8#TRPBF; Channels (#): 1; GBW (MHz) Typical: 0.2; Is (mA) Typical: 0.042; SR (V/us) Typical: 0.07; Vos (mV) Guaranteed: 0.225; Vos (mV) Typical: 0.05; Vs Max (V): 44; Vs Min (V): 2.6; DatasheetVersion: Rev. C; PackageVersion: Rev G; PackageReference: LT-MS8-8; PackageDescription: 8-Lead Plastic Small Outline, Body 3.9 x 4.9 mm, Pitch 1.27 mm; Supplier 1: Digi-Key; Supplier Part Number 1: LT1636CMS8#TRPBF-ND; Supplier 2: Newark; Supplier Part Number 2: 57M5424; Packing: Reel; RoHS: Pb-Free; Type: VFB; Mounting Technology: Surface Mount; ComponentLink1Description: Manufacturer URL; ComponentLink1URL: http://www.linear.com/; ComponentLink2Description: Datasheet; ComponentLink2URL: http://cds.linear.com/docs/en/datasheet/1636fc.pdf; ComponentLink3Description: Package Specification; ComponentLink3URL: http://cds.linear.com/docs/en/packaging/05081610_G_SO8.pdf
footprint LT-MS8-8_N (SOP, 8-Leads, Body 3x3mm, Pitch 0.65mm, IPC Medium Density)
footprint LT-MS8-8_L (SOP, 8-Leads, Body 3x3mm, Pitch 0.65mm, IPC High Density)
footprint LT-MS8-8_M (SOP, 8-Leads, Body 3x3mm, Pitch 0.65mm, IPC Low Density)
pins: 1 NULL (in), 2 -IN (in), 3 +IN (in), 4 V- (power), 5 SHDN (in), 6 OUT (hiz), 7 V+ (power), 8 NULL (in)

## LT1636CN8
designator U?
Single Channel, Micropower Rail-to-Rail Operational Amplifier, 0.2 MHz Typical GBW, 0.07 V/us Typical SR, 2.6 to 44 V, 8-Pin DIP (N8-8), Commercial; Linear Technology Part Number: LT1636; Manufacturer: Linear Technology; PartNumber: LT1636CN8; Channels (#): 1; GBW (MHz) Typical: 0.2; Is (mA) Typical: 0.042; SR (V/us) Typical: 0.07; Vos (mV) Guaranteed: 0.225; Vos (mV) Typical: 0.05; Vs Max (V): 44; Vs Min (V): 2.6; DatasheetVersion: Rev. C; PackageVersion: Rev I; PackageReference: LT-N8-8; PackageDescription: 8-Lead PDIP, Body 10.16 x 6.48 mm, Pitch 2.54 mm; Supplier 1: Digi-Key; Supplier Part Number 1: LT1636CN8-ND; Type: VFB; Mounting Technology: Through Hole; ComponentLink1Description: Manufacturer URL; ComponentLink1URL: http://www.linear.com/; ComponentLink2Description: Datasheet; ComponentLink2URL: http://cds.linear.com/docs/en/datasheet/1636fc.pdf; ComponentLink3Description: Package Specification; ComponentLink3URL: http://cds.linear.com/docs/en/packaging/05081510_I_N8.pdf
footprint LT-N8-8 (DIP, 8-Leads, Body 10.16x6.48mm, Pitch 2.54mm)
pins: 1 NULL (in), 2 -IN (in), 3 +IN (in), 4 V- (power), 5 SHDN (in), 6 OUT (hiz), 7 V+ (power), 8 NULL (in)

## LT1636CN8#PBF
designator U?
Single Channel, Micropower Rail-to-Rail Operational Amplifier, 0.2 MHz Typical GBW, 0.07 V/us Typical SR, 2.6 to 44 V, 8-Pin DIP (N8-8), Commercial, Pb-Free; Linear Technology Part Number: LT1636; Manufacturer: Linear Technology; PartNumber: LT1636CN8#PBF; Channels (#): 1; GBW (MHz) Typical: 0.2; Is (mA) Typical: 0.042; SR (V/us) Typical: 0.07; Vos (mV) Guaranteed: 0.225; Vos (mV) Typical: 0.05; Vs Max (V): 44; Vs Min (V): 2.6; DatasheetVersion: Rev. C; PackageVersion: Rev I; PackageReference: LT-N8-8; PackageDescription: 8-Lead PDIP, Body 10.16 x 6.48 mm, Pitch 2.54 mm; Supplier 1: Digi-Key; Supplier Part Number 1: LT1636CN8#PBF-ND; RoHS: Pb-Free; Type: VFB; Mounting Technology: Surface Mount; ComponentLink1Description: Manufacturer URL; ComponentLink1URL: http://www.linear.com/; ComponentLink2Description: Datasheet; ComponentLink2URL: http://cds.linear.com/docs/en/datasheet/1636fc.pdf; ComponentLink3Description: Package Specification; ComponentLink3URL: http://cds.linear.com/docs/en/packaging/05081510_I_N8.pdf
footprint LT-N8-8 (DIP, 8-Leads, Body 10.16x6.48mm, Pitch 2.54mm)
pins: 1 NULL (in), 2 -IN (in), 3 +IN (in), 4 V- (power), 5 SHDN (in), 6 OUT (hiz), 7 V+ (power), 8 NULL (in)

## LT1636CS8
designator U?
Single Channel, Micropower Rail-to-Rail Operational Amplifier, 0.2 MHz Typical GBW, 0.07 V/us Typical SR, 2.6 to 44 V, 8-Pin SOIC (S8-8), Commercial; Linear Technology Part Number: LT1636; Manufacturer: Linear Technology; PartNumber: LT1636CS8; Channels (#): 1; GBW (MHz) Typical: 0.2; Is (mA) Typical: 0.042; SR (V/us) Typical: 0.07; Vos (mV) Guaranteed: 0.225; Vos (mV) Typical: 0.05; Vs Max (V): 44; Vs Min (V): 2.6; DatasheetVersion: Rev. C; PackageVersion: Rev G; PackageReference: LT-S8-8; PackageDescription: 8-Pin Plastic Small Outline, Body 4.9 x 3.9 mm, Pitch 1.27 mm; Supplier 1: Digi-Key; Supplier Part Number 1: LT1636CS8-ND; Supplier 2: Newark; Supplier Part Number 2: 57M5427; Type: VFB; Mounting Technology: Surface Mount; ComponentLink1Description: Manufacturer URL; ComponentLink1URL: http://www.linear.com/; ComponentLink2Description: Datasheet; ComponentLink2URL: http://cds.linear.com/docs/en/datasheet/1636fc.pdf; ComponentLink3Description: Package Specification; ComponentLink3URL: http://cds.linear.com/docs/en/packaging/05081610_G_SO8.pdf
footprint LT-S8-8_N (SOIC, 8-Leads, Body 4.9x3.9mm, Pitch 1.27mm, IPC Medium Density)
footprint LT-S8-8_L (SOIC, 8-Leads, Body 4.9x3.9mm, Pitch 1.27mm, IPC High Density)
footprint LT-S8-8_M (SOIC, 8-Leads, Body 4.9x3.9mm, Pitch 1.27mm, IPC Low Density)
pins: 1 NULL (in), 2 -IN (in), 3 +IN (in), 4 V- (power), 5 SHDN (in), 6 OUT (hiz), 7 V+ (power), 8 NULL (in)

## LT1636CS8#PBF
designator U?
Single Channel, Micropower Rail-to-Rail Operational Amplifier, 0.2 MHz Typical GBW, 0.07 V/us Typical SR, 2.6 to 44 V, 8-Pin SOIC (S8-8), Commercial, Pb-Free; Linear Technology Part Number: LT1636; Manufacturer: Linear Technology; PartNumber: LT1636CS8#PBF; Channels (#): 1; GBW (MHz) Typical: 0.2; Is (mA) Typical: 0.042; SR (V/us) Typical: 0.07; Vos (mV) Guaranteed: 0.225; Vos (mV) Typical: 0.05; Vs Max (V): 44; Vs Min (V): 2.6; DatasheetVersion: Rev. C; PackageVersion: Rev G; PackageReference: LT-S8-8; PackageDescription: 8-Pin Plastic Small Outline, Body 4.9 x 3.9 mm, Pitch 1.27 mm; Supplier 1: Digi-Key; Supplier Part Number 1: LT1636CS8#PBF-ND; Supplier 2: Farnell; Supplier Part Number 2: 1663456; Supplier 3: Newark; Supplier Part Number 3: 57M5428; RoHS: Pb-Free; Type: VFB; Mounting Technology: Surface Mount; ComponentLink1Description: Manufacturer URL; ComponentLink1URL: http://www.linear.com/; ComponentLink2Description: Datasheet; ComponentLink2URL: http://cds.linear.com/docs/en/datasheet/1636fc.pdf; ComponentLink3Description: Package Specification; ComponentLink3URL: http://cds.linear.com/docs/en/packaging/05081610_G_SO8.pdf
footprint LT-S8-8_N (SOIC, 8-Leads, Body 4.9x3.9mm, Pitch 1.27mm, IPC Medium Density)
footprint LT-S8-8_L (SOIC, 8-Leads, Body 4.9x3.9mm, Pitch 1.27mm, IPC High Density)
footprint LT-S8-8_M (SOIC, 8-Leads, Body 4.9x3.9mm, Pitch 1.27mm, IPC Low Density)
pins: 1 NULL (in), 2 -IN (in), 3 +IN (in), 4 V- (power), 5 SHDN (in), 6 OUT (hiz), 7 V+ (power), 8 NULL (in)

## LT1636CS8#TR
designator U?
Single Channel, Micropower Rail-to-Rail Operational Amplifier, 0.2 MHz Typical GBW, 0.07 V/us Typical SR, 2.6 to 44 V, 8-Pin SOIC (S8-8), Commercial, Reel; Linear Technology Part Number: LT1636; Manufacturer: Linear Technology; PartNumber: LT1636CS8#TR; Channels (#): 1; GBW (MHz) Typical: 0.2; Is (mA) Typical: 0.042; SR (V/us) Typical: 0.07; Vos (mV) Guaranteed: 0.225; Vos (mV) Typical: 0.05; Vs Max (V): 44; Vs Min (V): 2.6; DatasheetVersion: Rev. C; PackageVersion: Rev G; PackageReference: LT-S8-8; PackageDescription: 8-Pin Plastic Small Outline, Body 4.9 x 3.9 mm, Pitch 1.27 mm; Supplier 1: Digi-Key; Supplier Part Number 1: LT1636CS8#TR-ND; Supplier 2: Newark; Supplier Part Number 2: 57M5429; Packing: Reel; Type: VFB; Mounting Technology: Surface Mount; ComponentLink1Description: Manufacturer URL; ComponentLink1URL: http://www.linear.com/; ComponentLink2Description: Datasheet; ComponentLink2URL: http://cds.linear.com/docs/en/datasheet/1636fc.pdf; ComponentLink3Description: Package Specification; ComponentLink3URL: http://cds.linear.com/docs/en/packaging/05081610_G_SO8.pdf
footprint LT-S8-8_N (SOIC, 8-Leads, Body 4.9x3.9mm, Pitch 1.27mm, IPC Medium Density)
footprint LT-S8-8_L (SOIC, 8-Leads, Body 4.9x3.9mm, Pitch 1.27mm, IPC High Density)
footprint LT-S8-8_M (SOIC, 8-Leads, Body 4.9x3.9mm, Pitch 1.27mm, IPC Low Density)
pins: 1 NULL (in), 2 -IN (in), 3 +IN (in), 4 V- (power), 5 SHDN (in), 6 OUT (hiz), 7 V+ (power), 8 NULL (in)

## LT1636CS8#TRPBF
designator U?
Single Channel, Micropower Rail-to-Rail Operational Amplifier, 0.2 MHz Typical GBW, 0.07 V/us Typical SR, 2.6 to 44 V, 8-Pin SOIC (S8-8), Commercial, Pb-Free, Reel; Linear Technology Part Number: LT1636; Manufacturer: Linear Technology; PartNumber: LT1636CS8#TRPBF; Channels (#): 1; GBW (MHz) Typical: 0.2; Is (mA) Typical: 0.042; SR (V/us) Typical: 0.07; Vos (mV) Guaranteed: 0.225; Vos (mV) Typical: 0.05; Vs Max (V): 44; Vs Min (V): 2.6; DatasheetVersion: Rev. C; PackageVersion: Rev G; PackageReference: LT-S8-8; PackageDescription: 8-Pin Plastic Small Outline, Body 4.9 x 3.9 mm, Pitch 1.27 mm; Supplier 1: Digi-Key; Supplier Part Number 1: LT1636CS8#TRPBF-ND; Supplier 2: Newark; Supplier Part Number 2: 57M5430; Packing: Reel; RoHS: Pb-Free; Type: VFB; Mounting Technology: Surface Mount; ComponentLink1Description: Manufacturer URL; ComponentLink1URL: http://www.linear.com/; ComponentLink2Description: Datasheet; ComponentLink2URL: http://cds.linear.com/docs/en/datasheet/1636fc.pdf; ComponentLink3Description: Package Specification; ComponentLink3URL: http://cds.linear.com/docs/en/packaging/05081610_G_SO8.pdf
footprint LT-S8-8_N (SOIC, 8-Leads, Body 4.9x3.9mm, Pitch 1.27mm, IPC Medium Density)
footprint LT-S8-8_L (SOIC, 8-Leads, Body 4.9x3.9mm, Pitch 1.27mm, IPC High Density)
footprint LT-S8-8_M (SOIC, 8-Leads, Body 4.9x3.9mm, Pitch 1.27mm, IPC Low Density)
pins: 1 NULL (in), 2 -IN (in), 3 +IN (in), 4 V- (power), 5 SHDN (in), 6 OUT (hiz), 7 V+ (power), 8 NULL (in)

## LT1636HS8
designator U?
Single Channel, Micropower Rail-to-Rail Operational Amplifier, 0.2 MHz Typical GBW, 0.07 V/us Typical SR, 2.6 to 44 V, 8-Pin SOIC (S8-8), High Temperature / Automotive; Linear Technology Part Number: LT1636; Manufacturer: Linear Technology; PartNumber: LT1636HS8; Channels (#): 1; GBW (MHz) Typical: 0.2; Is (mA) Typical: 0.042; SR (V/us) Typical: 0.07; Vos (mV) Guaranteed: 0.225; Vos (mV) Typical: 0.05; Vs Max (V): 44; Vs Min (V): 2.6; DatasheetVersion: Rev. C; PackageVersion: Rev G; PackageReference: LT-S8-8; PackageDescription: 8-Pin Plastic Small Outline, Body 4.9 x 3.9 mm, Pitch 1.27 mm; Supplier 1: Digi-Key; Supplier Part Number 1: LT1636HS8-ND; Type: VFB; Mounting Technology: Surface Mount; ComponentLink1Description: Manufacturer URL; ComponentLink1URL: http://www.linear.com/; ComponentLink2Description: Datasheet; ComponentLink2URL: http://cds.linear.com/docs/en/datasheet/1636fc.pdf; ComponentLink3Description: Package Specification; ComponentLink3URL: http://cds.linear.com/docs/en/packaging/05081610_G_SO8.pdf
footprint LT-S8-8_N (SOIC, 8-Leads, Body 4.9x3.9mm, Pitch 1.27mm, IPC Medium Density)
footprint LT-S8-8_L (SOIC, 8-Leads, Body 4.9x3.9mm, Pitch 1.27mm, IPC High Density)
footprint LT-S8-8_M (SOIC, 8-Leads, Body 4.9x3.9mm, Pitch 1.27mm, IPC Low Density)
pins: 1 NULL (in), 2 -IN (in), 3 +IN (in), 4 V- (power), 5 SHDN (in), 6 OUT (hiz), 7 V+ (power), 8 NULL (in)

## LT1636HS8#PBF
designator U?
Single Channel, Micropower Rail-to-Rail Operational Amplifier, 0.2 MHz Typical GBW, 0.07 V/us Typical SR, 2.6 to 44 V, 8-Pin SOIC (S8-8), High Temperature / Automotive, Pb-Free; Linear Technology Part Number: LT1636; Manufacturer: Linear Technology; PartNumber: LT1636HS8#PBF; Channels (#): 1; GBW (MHz) Typical: 0.2; Is (mA) Typical: 0.042; SR (V/us) Typical: 0.07; Vos (mV) Guaranteed: 0.225; Vos (mV) Typical: 0.05; Vs Max (V): 44; Vs Min (V): 2.6; DatasheetVersion: Rev. C; PackageVersion: Rev G; PackageReference: LT-S8-8; PackageDescription: 8-Pin Plastic Small Outline, Body 4.9 x 3.9 mm, Pitch 1.27 mm; Supplier 1: Digi-Key; Supplier Part Number 1: LT1636HS8#PBF-ND; Supplier 2: Farnell; Supplier Part Number 2: 2294677; Supplier 3: Newark; Supplier Part Number 3: 57M5432; RoHS: Pb-Free; Type: VFB; Mounting Technology: Surface Mount; ComponentLink1Description: Manufacturer URL; ComponentLink1URL: http://www.linear.com/; ComponentLink2Description: Datasheet; ComponentLink2URL: http://cds.linear.com/docs/en/datasheet/1636fc.pdf; ComponentLink3Description: Package Specification; ComponentLink3URL: http://cds.linear.com/docs/en/packaging/05081610_G_SO8.pdf
footprint LT-S8-8_N (SOIC, 8-Leads, Body 4.9x3.9mm, Pitch 1.27mm, IPC Medium Density)
footprint LT-S8-8_L (SOIC, 8-Leads, Body 4.9x3.9mm, Pitch 1.27mm, IPC High Density)
footprint LT-S8-8_M (SOIC, 8-Leads, Body 4.9x3.9mm, Pitch 1.27mm, IPC Low Density)
pins: 1 NULL (in), 2 -IN (in), 3 +IN (in), 4 V- (power), 5 SHDN (in), 6 OUT (hiz), 7 V+ (power), 8 NULL (in)

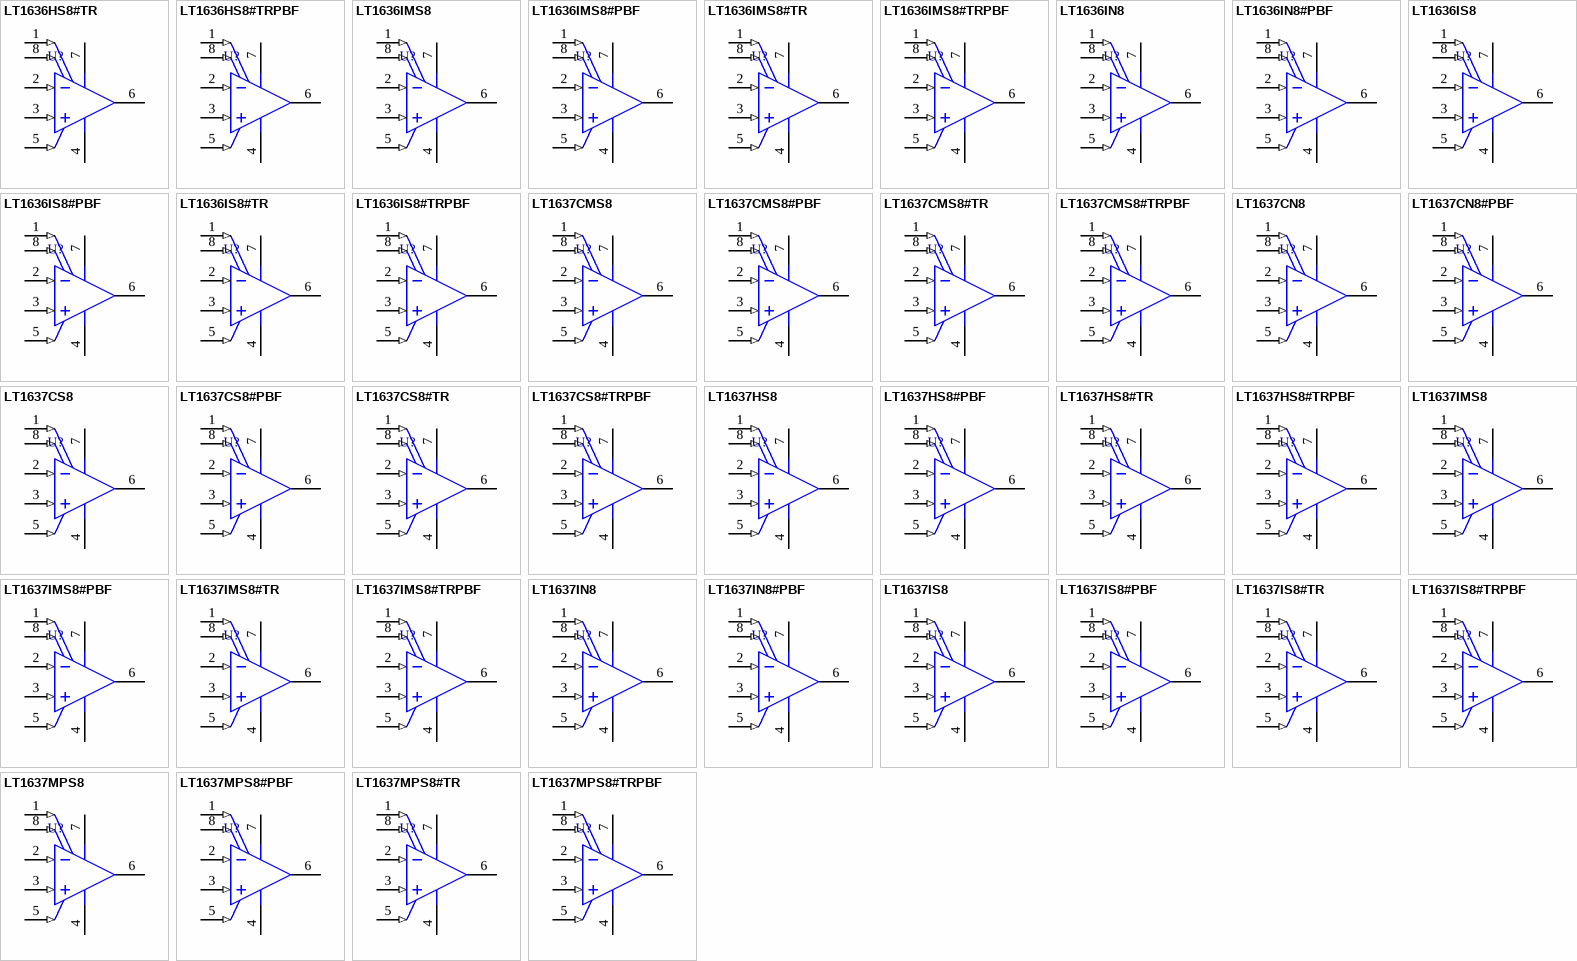
[diagram p58: symbols LT1636HS8#TR to LT1637MPS8#TRPBF]

## LT1636HS8#TR
designator U?
Single Channel, Micropower Rail-to-Rail Operational Amplifier, 0.2 MHz Typical GBW, 0.07 V/us Typical SR, 2.6 to 44 V, 8-Pin SOIC (S8-8), High Temperature / Automotive, Reel; Linear Technology Part Number: LT1636; Manufacturer: Linear Technology; PartNumber: LT1636HS8#TR; Channels (#): 1; GBW (MHz) Typical: 0.2; Is (mA) Typical: 0.042; SR (V/us) Typical: 0.07; Vos (mV) Guaranteed: 0.225; Vos (mV) Typical: 0.05; Vs Max (V): 44; Vs Min (V): 2.6; DatasheetVersion: Rev. C; PackageVersion: Rev G; PackageReference: LT-S8-8; PackageDescription: 8-Pin Plastic Small Outline, Body 4.9 x 3.9 mm, Pitch 1.27 mm; Supplier 1: Digi-Key; Supplier Part Number 1: LT1636HS8TR-ND; Packing: Reel; Type: VFB; Mounting Technology: Surface Mount; ComponentLink1Description: Manufacturer URL; ComponentLink1URL: http://www.linear.com/; ComponentLink2Description: Datasheet; ComponentLink2URL: http://cds.linear.com/docs/en/datasheet/1636fc.pdf; ComponentLink3Description: Package Specification; ComponentLink3URL: http://cds.linear.com/docs/en/packaging/05081610_G_SO8.pdf
footprint LT-S8-8_N (SOIC, 8-Leads, Body 4.9x3.9mm, Pitch 1.27mm, IPC Medium Density)
footprint LT-S8-8_L (SOIC, 8-Leads, Body 4.9x3.9mm, Pitch 1.27mm, IPC High Density)
footprint LT-S8-8_M (SOIC, 8-Leads, Body 4.9x3.9mm, Pitch 1.27mm, IPC Low Density)
pins: 1 NULL (in), 2 -IN (in), 3 +IN (in), 4 V- (power), 5 SHDN (in), 6 OUT (hiz), 7 V+ (power), 8 NULL (in)

## LT1636HS8#TRPBF
designator U?
Single Channel, Micropower Rail-to-Rail Operational Amplifier, 0.2 MHz Typical GBW, 0.07 V/us Typical SR, 2.6 to 44 V, 8-Pin SOIC (S8-8), High Temperature / Automotive, Pb-Free, Reel; Linear Technology Part Number: LT1636; Manufacturer: Linear Technology; PartNumber: LT1636HS8#TRPBF; Channels (#): 1; GBW (MHz) Typical: 0.2; Is (mA) Typical: 0.042; SR (V/us) Typical: 0.07; Vos (mV) Guaranteed: 0.225; Vos (mV) Typical: 0.05; Vs Max (V): 44; Vs Min (V): 2.6; DatasheetVersion: Rev. C; PackageVersion: Rev G; PackageReference: LT-S8-8; PackageDescription: 8-Pin Plastic Small Outline, Body 4.9 x 3.9 mm, Pitch 1.27 mm; Supplier 1: Digi-Key; Supplier Part Number 1: LT1636HS8#TRPBF-ND; Packing: Reel; RoHS: Pb-Free; Type: VFB; Mounting Technology: Surface Mount; ComponentLink1Description: Manufacturer URL; ComponentLink1URL: http://www.linear.com/; ComponentLink2Description: Datasheet; ComponentLink2URL: http://cds.linear.com/docs/en/datasheet/1636fc.pdf; ComponentLink3Description: Package Specification; ComponentLink3URL: http://cds.linear.com/docs/en/packaging/05081610_G_SO8.pdf
footprint LT-S8-8_N (SOIC, 8-Leads, Body 4.9x3.9mm, Pitch 1.27mm, IPC Medium Density)
footprint LT-S8-8_L (SOIC, 8-Leads, Body 4.9x3.9mm, Pitch 1.27mm, IPC High Density)
footprint LT-S8-8_M (SOIC, 8-Leads, Body 4.9x3.9mm, Pitch 1.27mm, IPC Low Density)
pins: 1 NULL (in), 2 -IN (in), 3 +IN (in), 4 V- (power), 5 SHDN (in), 6 OUT (hiz), 7 V+ (power), 8 NULL (in)

## LT1636IMS8
designator U?
Single Channel, Micropower Rail-to-Rail Operational Amplifier, 0.2 MHz Typical GBW, 0.07 V/us Typical SR, 2.6 to 44 V, 8-Pin SOP (MS8-8), Industrial; Linear Technology Part Number: LT1636; Manufacturer: Linear Technology; PartNumber: LT1636IMS8; Channels (#): 1; GBW (MHz) Typical: 0.2; Is (mA) Typical: 0.042; SR (V/us) Typical: 0.07; Vos (mV) Guaranteed: 0.225; Vos (mV) Typical: 0.05; Vs Max (V): 44; Vs Min (V): 2.6; DatasheetVersion: Rev. C; PackageVersion: Rev G; PackageReference: LT-MS8-8; PackageDescription: 8-Lead Plastic Small Outline, Body 3.9 x 4.9 mm, Pitch 1.27 mm; Type: VFB; Mounting Technology: Surface Mount; ComponentLink1Description: Manufacturer URL; ComponentLink1URL: http://www.linear.com/; ComponentLink2Description: Datasheet; ComponentLink2URL: http://cds.linear.com/docs/en/datasheet/1636fc.pdf; ComponentLink3Description: Package Specification; ComponentLink3URL: http://cds.linear.com/docs/en/packaging/05081610_G_SO8.pdf
footprint LT-MS8-8_N (SOP, 8-Leads, Body 3x3mm, Pitch 0.65mm, IPC Medium Density)
footprint LT-MS8-8_L (SOP, 8-Leads, Body 3x3mm, Pitch 0.65mm, IPC High Density)
footprint LT-MS8-8_M (SOP, 8-Leads, Body 3x3mm, Pitch 0.65mm, IPC Low Density)
pins: 1 NULL (in), 2 -IN (in), 3 +IN (in), 4 V- (power), 5 SHDN (in), 6 OUT (hiz), 7 V+ (power), 8 NULL (in)

## LT1636IMS8#PBF
designator U?
Single Channel, Micropower Rail-to-Rail Operational Amplifier, 0.2 MHz Typical GBW, 0.07 V/us Typical SR, 2.6 to 44 V, 8-Pin SOP (MS8-8), Industrial, Pb-Free; Linear Technology Part Number: LT1636; Manufacturer: Linear Technology; PartNumber: LT1636IMS8#PBF; Channels (#): 1; GBW (MHz) Typical: 0.2; Is (mA) Typical: 0.042; SR (V/us) Typical: 0.07; Vos (mV) Guaranteed: 0.225; Vos (mV) Typical: 0.05; Vs Max (V): 44; Vs Min (V): 2.6; DatasheetVersion: Rev. C; PackageVersion: Rev G; PackageReference: LT-MS8-8; PackageDescription: 8-Lead Plastic Small Outline, Body 3.9 x 4.9 mm, Pitch 1.27 mm; Supplier 1: Digi-Key; Supplier Part Number 1: LT1636IMS8#PBF-ND; Supplier 2: Farnell; Supplier Part Number 2: 2252733; RoHS: Pb-Free; Type: VFB; Mounting Technology: Surface Mount; ComponentLink1Description: Manufacturer URL; ComponentLink1URL: http://www.linear.com/; ComponentLink2Description: Datasheet; ComponentLink2URL: http://cds.linear.com/docs/en/datasheet/1636fc.pdf; ComponentLink3Description: Package Specification; ComponentLink3URL: http://cds.linear.com/docs/en/packaging/05081610_G_SO8.pdf
footprint LT-MS8-8_N (SOP, 8-Leads, Body 3x3mm, Pitch 0.65mm, IPC Medium Density)
footprint LT-MS8-8_L (SOP, 8-Leads, Body 3x3mm, Pitch 0.65mm, IPC High Density)
footprint LT-MS8-8_M (SOP, 8-Leads, Body 3x3mm, Pitch 0.65mm, IPC Low Density)
pins: 1 NULL (in), 2 -IN (in), 3 +IN (in), 4 V- (power), 5 SHDN (in), 6 OUT (hiz), 7 V+ (power), 8 NULL (in)